# Altium footprint library MSAK24025P30.PcbLib: 1 footprints
Each footprint in its own frame and in the unit in brackets; x right, y up, seen from the top. Pads: shape width x height; smd on the part's side, far side on the other; paste and mask are expansions set on the pad; w line width, h text height; cw(c..) or ccw(c..) is an arc to the next point about the centre after c.
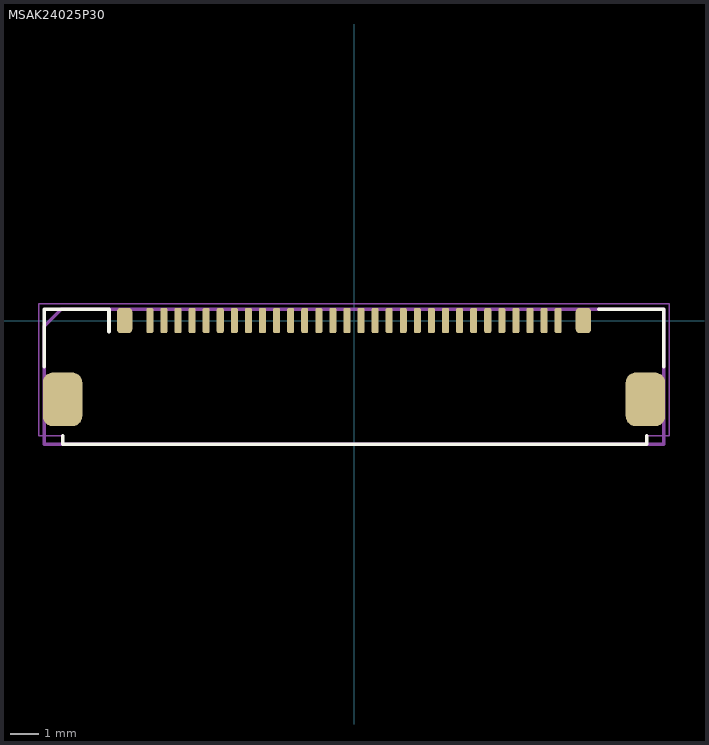
[diagram p0: the footprint, top view; thin cyan lines are the x and y axes]

## MSAK24025P30 [mm]
pads (34):
  rrect50% 0.25x0.9 smd mask+0: 1(-7.25,0) 2(-6.75,0) 3(-6.25,0) 4(-5.75,0) 5(-5.25,0) 6(-4.75,0) 7(-4.25,0) 8(-3.75,0) 9(-3.25,0) 10(-2.75,0) 11(-2.25,0) 12(-1.75,0) 13(-1.25,0) 14(-0.75,0) 15(-0.25,0) 16(0.25,0) 17(0.75,0) 18(1.25,0) 19(1.75,0) 20(2.25,0) 21(2.75,0) 22(3.25,0) 23(3.75,0) 24(4.25,0) 25(4.75,0) 26(5.25,0) 27(5.75,0) 28(6.25,0) 29(6.75,0) 30(7.25,0)
  rrect50% 1.4x1.9 smd mask+0: ""(-10.35,-2.8) ""(10.35,-2.8)
  rrect50% 0.55x0.9 smd mask+0: ""(-8.15,0) ""(8.15,0)
Top Overlay:
  lines w0.05: -10.35,-4.4 -10.35,-4.1
  lines w0.127: -11,-1.65 -11,0.4 -8.7,0.4 -8.7,-0.4 ; -10.35,-4.1 -10.35,-4.4 10.4,-4.4 10.4,-4.25 10.4,-4.1 ; 8.7,0.4 11,0.4 11,-1.65
Mechanical 3:
  lines w0.127: -11,-4.4 11,-4.4 11,0.4 -10.4,0.4 -11,-0.2 -11,-0.8 -11,-4.4
Mechanical 7:
  lines w0.05: -11.2,-4.1 -11.2,0.6 11.2,0.6 11.2,0.2 11.2,-4.1 10.4,-4.1 10.4,-4.386 -10.35,-4.386 -10.35,-4.1 -11.2,-4.1
Mechanical 9:
  text "'.Designator'" at -6.247,-2.471 h1.02
3D body "MSAK24025P30_C_2018_1671804726.214.step": height 1.03, standoff 0.01, extent -10.62,-3.769 10.626,0.168
3D body: height 1.1, standoff 0, extent -11.2,-4.386 11.2,0.6